# EAGLE library part LTC3850 (library PowerProducts)
Dual, 2-Phase Synchronous Step-Down Switching Controller
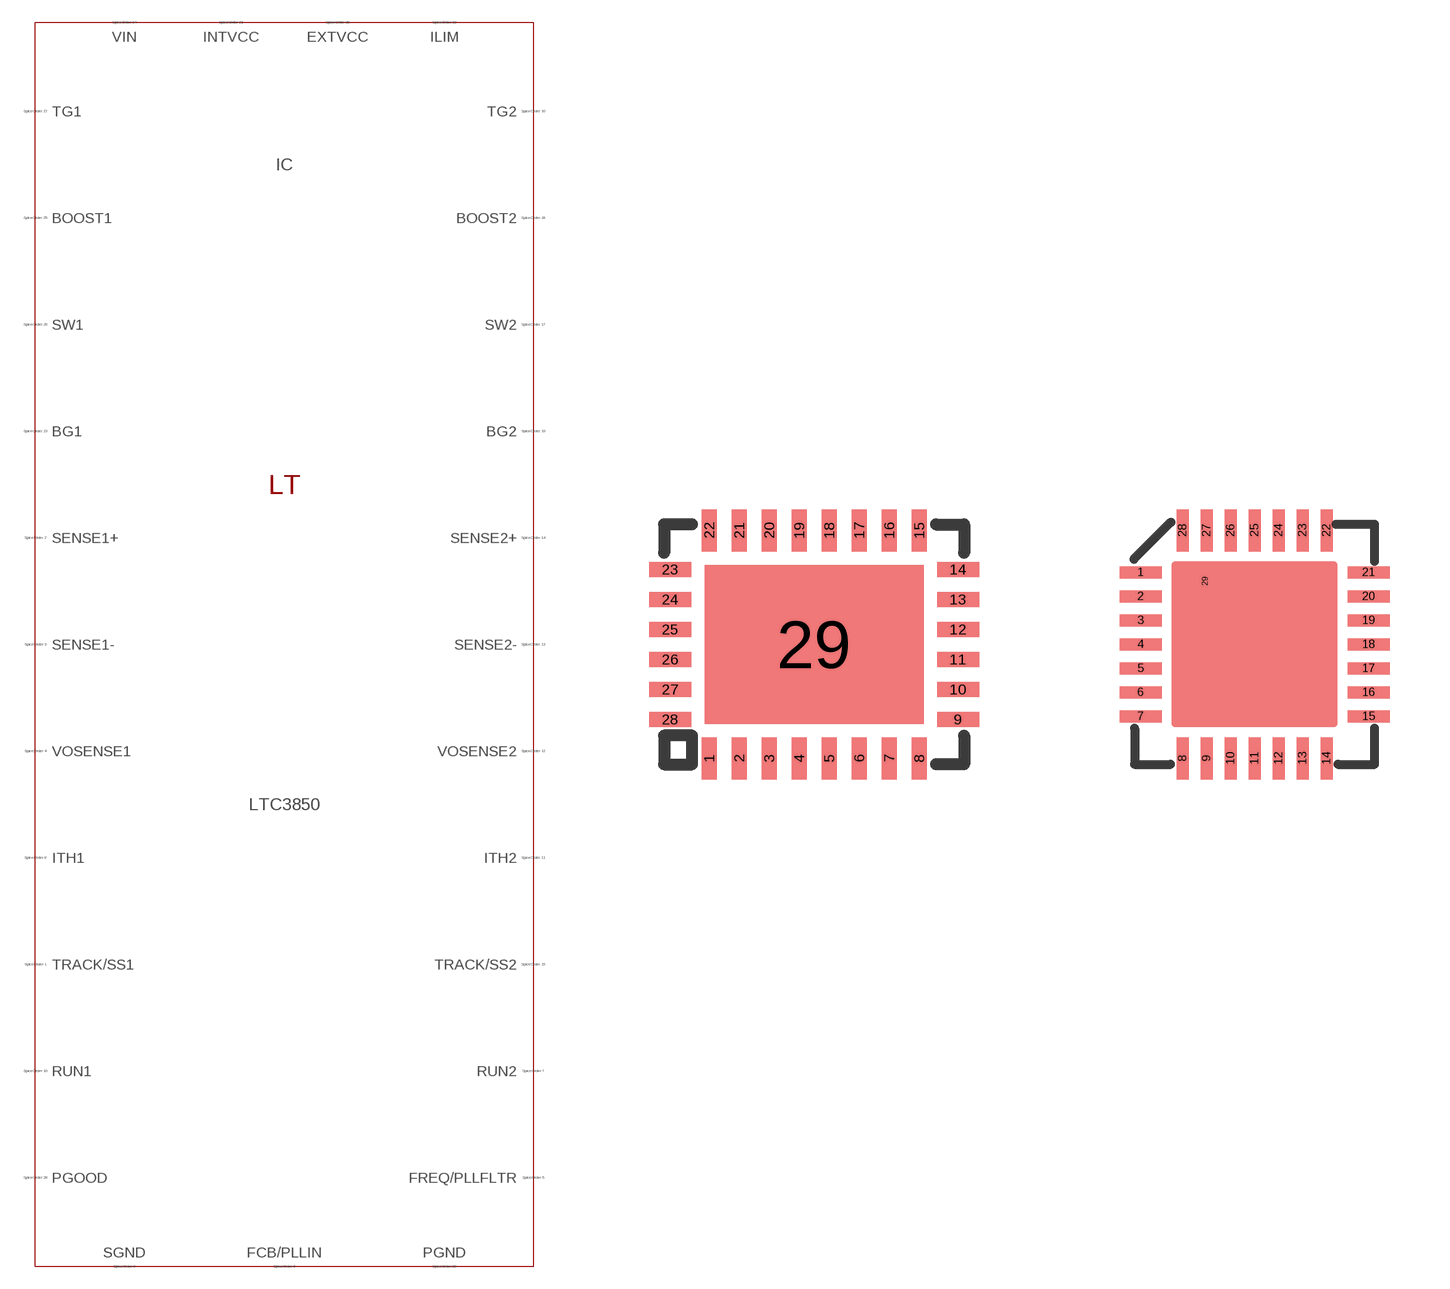
[diagram p364: symbol with the pads of QFN28(UFD); footprints QFN28(UFD), QFN28(UF)]

Designator prefix IC

## LTC3850UFD (SPICEMODEL: LTC3850.sub; SPICEPREFIX: X; VALUE2: LTC3850)  [QFN28(UFD)]
1  SENSE1-  pas
2  TRACK/SS1  pas
3  ITH1  pas
4  VOSENSE1  pas
5  VOSENSE2  pas
6  ITH2  pas
7  TRACK/SS2  pas
8  SENSE2-  pas
9  SENSE2+  pas
10  RUN2  pas
11  ILIM  pas
12  EXTVCC  pas
13  PGOOD  pas
14  SW2  pas
15  TG2  pas
16  BOOST2  pas
17  PGND  pas
18  BG2  pas
19  INTVCC  pas
20  VIN  pas
21  BG1  pas
22  BOOST1  pas
23  TG1  pas
24  SW1  pas
25  FCB/PLLIN  pas
26  FREQ/PLLFLTR  pas
27  RUN1  pas
28  SENSE1+  pas
29  SGND  pas

## LTC3850 (SPICEMODEL: LTC3850.sub; SPICEPREFIX: X; VALUE2: LTC3850)  [QFN28(UF)]
1  TRACK/SS1  pas
2  ITH1  pas
3  VOSENSE1  pas
4  VOSENSE2  pas
5  ITH2  pas
6  TRACK/SS2  pas
7  SENSE2-  pas
8  SENSE2+  pas
9  RUN2  pas
10  ILIM  pas
11  EXTVCC  pas
12  PGOOD  pas
13  SW2  pas
14  TG2  pas
15  BOOST2  pas
16  PGND  pas
17  BG2  pas
18  INTVCC  pas
19  VIN  pas
20  BG1  pas
21  BOOST1  pas
22  TG1  pas
23  SW1  pas
24  FCB/PLLIN  pas
25  FREQ/PLLFLTR  pas
26  RUN1  pas
27  SENSE1+  pas
28  SENSE1-  pas
29  SGND  pas

## Footprint QFN28(UFD) (pad centres in mm)
Package generated from: QFN28(UFD).asc (!PADS-POWERPCB-V5.0-BASIC! DESIGN DATABASE ASCII FILE 1.0) with :import-pads-powerpcb-v5.ulp Version 1.0.1 at 04.10.2012 14:11:25
smd 0.375 x 1.05: 1 -2.625,-2.85; 2 -1.875,-2.85; 3 -1.125,-2.85; 4 -0.375,-2.85; 5 0.375,-2.85; 6 1.125,-2.85; 7 1.875,-2.85; 8 2.625,-2.85; 15 2.625,2.85; 16 1.875,2.85; 17 1.125,2.85; 18 0.375,2.85; 19 -0.375,2.85; 20 -1.125,2.85; 21 -1.875,2.85; 22 -2.625,2.85
smd 1.05 x 0.375: 9 3.6,-1.875; 10 3.6,-1.125; 11 3.6,-0.375; 12 3.6,0.375; 13 3.6,1.125; 14 3.6,1.875; 23 -3.6,1.875; 24 -3.6,1.125; 25 -3.6,0.375; 26 -3.6,-0.375; 27 -3.6,-1.125; 28 -3.6,-1.875
smd 5.475 x 3.975: 29 0,0

## Footprint QFN28(UF) (pad centres in mm)
Package generated from: QFN28(UF).asc (!PADS-POWERPCB-V9.3-BASIC! DESIGN DATABASE ASCII FILE 1.0) with :import-pads-powerpcb-v5.ulp Version 1.0.1 at 04.10.2012 14:11:25
smd 1.05 x 0.3: 1 -2.85,1.8; 2 -2.85,1.2; 3 -2.85,0.6; 4 -2.85,0; 5 -2.85,-0.6; 6 -2.85,-1.2; 7 -2.85,-1.8; 15 2.85,-1.8; 16 2.85,-1.2; 17 2.85,-0.6; 18 2.85,0; 19 2.85,0.6; 20 2.85,1.2; 21 2.85,1.8
smd 0.3 x 1.05: 8 -1.8,-2.85; 9 -1.2,-2.85; 10 -0.6,-2.85; 11 0,-2.85; 12 0.6,-2.85; 13 1.2,-2.85; 14 1.8,-2.85; 22 1.8,2.85; 23 1.2,2.85; 24 0.6,2.85; 25 0,2.85; 26 -0.6,2.85; 27 -1.2,2.85; 28 -1.8,2.85
smd 0 x 0.3: 29 -1.245,1.575